# EAGLE library part 6BN11 (library wheat)
6BN11 dual pentode
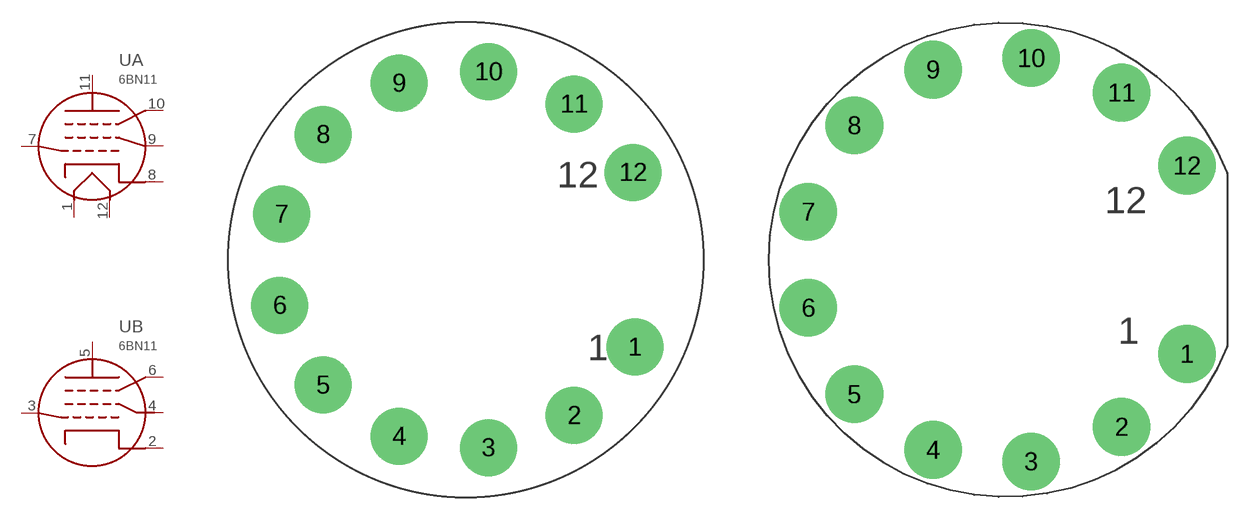
[diagram p90: symbol with the pads of COMPACTRON_BOT; footprints COMPACTRON_BOT, COMPACTRON_B2]

Designator prefix -; gates A=6BN11 B=6BN11_2

## 6BN11  [COMPACTRON_BOT]
1  A:F1  pas
2  B:B_K  pas
3  B:B_G1  pas
4  B:B_G2  pas
5  B:B_P  pas
6  B:B_G3  pas
7  A:G1  pas
8  A:K  pas
9  A:G2  pas
10  A:G3  pas
11  A:P  pas
12  A:F2  pas

## 6BN11_2  [COMPACTRON_B2]
Pads as for COMPACTRON_BOT

## Footprint COMPACTRON_BOT (pad centres in mm)
12-PIN COMPACTRON MTD BOTTOM SIDE
drill 2.184 pad 3.81: 1 11.303,-5.842; 2 7.239,-10.414; 3 1.524,-12.573; 4 -4.445,-11.811; 5 -9.525,-8.382; 6 -12.446,-3.048; 7 -12.319,3.048; 8 -9.525,8.382; 9 -4.445,11.811; 10 1.524,12.573; 11 7.239,10.414; 12 11.176,5.842

## Footprint COMPACTRON_B2 (pad centres in mm)
12-PIN COMPACTRON, MOUNTED BOTTOM SIDE 1-1/16" PIN CICLE, LIKE SURPLUS SALES
drill 2.184 pad 3.81: 1 11.938,-6.223; 2 7.62,-11.049; 3 1.651,-13.335; 4 -4.826,-12.573; 5 -10.033,-8.89; 6 -13.081,-3.175; 7 -13.081,3.175; 8 -10.033,8.89; 9 -4.826,12.573; 10 1.651,13.335; 11 7.62,11.049; 12 11.938,6.223